# Altium footprint library Wireless.PcbLib: 5 footprints
Each footprint in its own frame and in the unit in brackets; x right, y up, seen from the top. Pads: shape width x height; smd on the part's side, far side on the other; paste and mask are expansions set on the pad; w line width, h text height; cw(c..) or ccw(c..) is an arc to the next point about the centre after c.
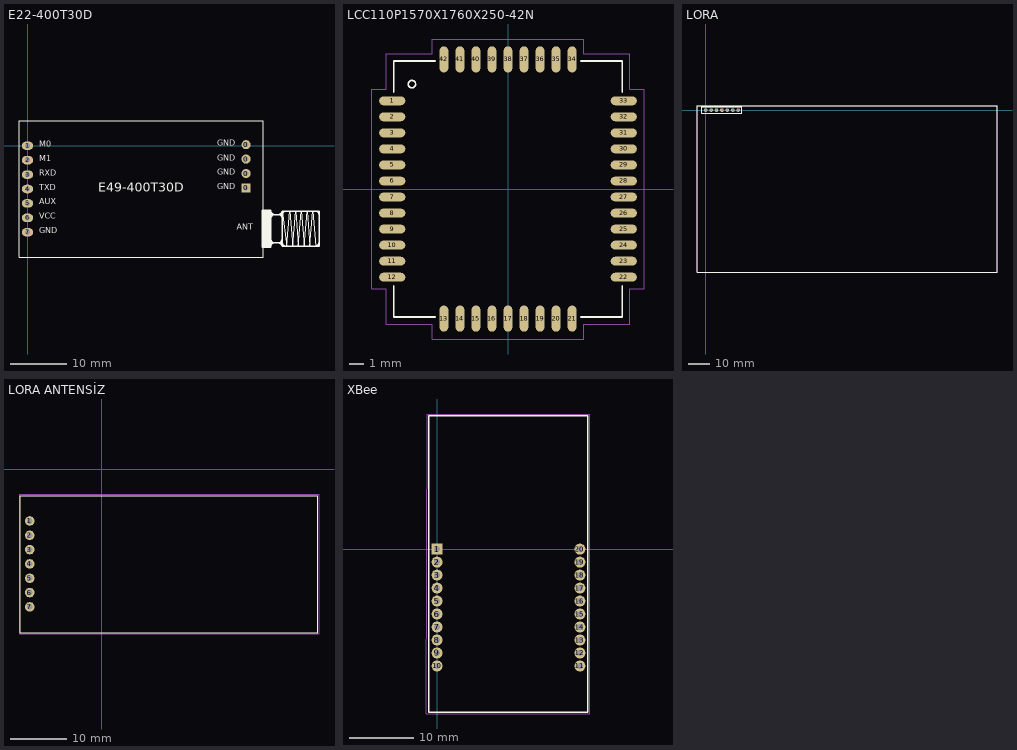
[diagram p0: the footprints below, top view; thin cyan lines are the x and y axes]

## E22-400T30D [mm]
pads (11):
  rect 1.6x1.6 hole 0.9: 0(38.5,-7.43)
  round 1.6 hole 0.9: 0(38.5,-4.89) 0(38.5,-2.35) 0(38.5,0.19)
  oval 2x1.5 hole 0.9: 1(0,0) 2(0,-2.54) 3(0,-5.08) 4(0,-7.62) 5(0,-10.16) 6(0,-12.7) 7(0,-15.24)
Top Overlay:
  rectangle: 41.35,-17.865 42.85,-11.365
  rectangle: 41.35,-17.87 42.85,-11.37
  lines w0.1: 45.7,-17.72 44.85,-11.52 45.7,-17.72 ; 45.7,-17.72 46.22,-11.52 ; 45.7,-17.72 46.22,-11.52 ; 46.22,-11.52 46.73,-17.72 ; 46.22,-11.52 46.73,-17.72 ; 46.73,-17.72 47.24,-11.52 ; 46.73,-17.72 47.24,-11.52 ; 47.24,-11.52 47.72,-17.72 ; 47.24,-11.52 47.72,-17.72 ; 47.72,-17.72 48.24,-11.52 ; 47.72,-17.72 48.24,-11.52 ; 48.24,-11.52 48.75,-17.72 ; 48.24,-11.52 48.75,-17.72 ; 48.75,-17.72 49.24,-11.52 ; 48.75,-17.72 49.24,-11.52 ; 49.24,-11.52 49.76,-17.72 ; 49.24,-11.52 49.76,-17.72 ; 49.76,-17.72 50.28,-11.52 ; 49.76,-17.72 50.28,-11.52 ; 50.28,-11.52 50.79,-17.72 50.28,-11.52 ; -1.5,-19.62 -1.5,4.38 41.5,4.38 41.5,-19.62 -1.5,-19.62
  lines w0.254: 41.35,-17.87 41.35,-11.37 ; 41.35,-17.87 42.85,-17.87 ; 41.35,-17.87 41.35,-11.37 ; 41.35,-17.87 42.85,-17.87 ; 41.35,-11.37 42.85,-11.37 ; 41.35,-11.37 42.85,-11.37 ; 42.85,-17.87 42.85,-11.37 ; 42.85,-17.87 42.85,-11.37 ; 42.85,-16.47 ccw(c43.5,-16.47) 43.5,-17.12 ; 42.85,-16.47 ccw(c43.5,-16.47) 43.5,-17.12 ; 42.85,-16.47 42.85,-16.1 42.85,-16.47 ; 42.85,-12.82 cw(c43.55,-12.82) 43.55,-12.12 ; 42.85,-12.82 cw(c43.55,-12.82) 43.55,-12.12 ; 42.85,-12.82 42.85,-13.74 42.85,-12.82 ; 42.85,-11.49 ccw(c43.48,-11.49) 43.48,-12.12 ; 42.85,-11.49 ccw(c43.48,-11.49) 43.48,-12.12 ; 42.85,-11.49 42.85,-11.37 ; 42.85,-11.49 42.85,-11.37 ; 43.4,-17.12 ccw(c43.4,-17.67) 42.85,-17.67 cw(c43.4,-17.67) 43.4,-17.12 ; 43.4,-17.12 44.25,-17.12 ; 43.4,-17.12 44.25,-17.12 ; 43.48,-12.12 44.25,-12.12 ; 43.48,-12.12 44.25,-12.12 ; 43.5,-17.12 44.22,-17.12 ; 43.5,-17.12 44.22,-17.12 ; 43.55,-12.12 44.25,-12.12 ; 43.55,-12.12 44.25,-12.12 ; 44.22,-17.12 ccw(c44.22,-16.49) 44.85,-16.49 cw(c44.22,-16.49) 44.22,-17.12 ; 44.25,-17.12 cw(c44.25,-17.72) 44.85,-17.72 ; 44.25,-17.12 cw(c44.25,-17.72) 44.85,-17.72 ; 44.25,-12.12 ccw(c44.25,-11.52) 44.85,-11.52 ; 44.25,-12.12 cw(c44.25,-12.72) 44.85,-12.72 ccw(c44.25,-12.72) 44.25,-12.12 ; 44.25,-12.12 ccw(c44.25,-11.52) 44.85,-11.52 ; 44.85,-17.72 51.35,-17.72 ; 44.85,-17.72 44.85,-11.52 ; 44.85,-17.72 51.35,-17.72 ; 44.85,-17.72 44.85,-11.52 ; 44.85,-11.52 51.35,-11.52 ; 44.85,-11.52 51.35,-11.52 ; 45.53,-17.72 cw(c45.53,-17.04) 44.85,-17.04 ccw(c45.53,-17.04) 45.53,-17.72 ; 45.53,-17.72 45.68,-17.72 45.53,-17.72 ; 50.73,-17.72 ccw(c50.73,-17.1) 51.35,-17.1 cw(c50.73,-17.1) 50.73,-17.72 ; 50.73,-17.72 50.5,-17.72 50.73,-17.72 ; 50.81,-11.52 cw(c50.81,-12.06) 51.35,-12.06 ccw(c50.81,-12.06) 50.81,-11.52 ; 50.81,-11.52 50.41,-11.52 50.81,-11.52 ; 51.35,-17.72 51.35,-11.52 ; 51.35,-17.72 51.35,-11.52 ; 42.68,-17.12 44.85,-17.12 42.68,-17.12 ; 42.85,-12.12 44.85,-12.12 42.85,-12.12 ; 44.85,-12.13 cw(c45.46,-12.13) 45.46,-11.52 ccw(c45.46,-12.13) 44.85,-12.13
  text "GND" at 33.457,-8.001 h1.8
  text "GND" at 33.457,-0.381 h1.8
  text "GND" at 33.426,-3.016 h1.8
  text "GND" at 33.426,-5.429 h1.8
  text "GND" at 2.063,-15.78 h1.8
  text "VCC" at 2.063,-13.24 h1.8
  text "AUX" at 2.063,-10.7 h1.8
  text "TXD" at 2.063,-8.16 h1.8
  text "RXD" at 2.063,-5.62 h1.8
  text "M1" at 2.063,-3.08 h1.8
  text "M0" at 2.063,-0.54 h1.8
  text "ANT" at 36.83,-15.19 h1.8
  text "E49-400T30D" at 12.446,-8.763 h2.8
3D body "E32-TTL.STEP": height 8, standoff -5.51, extent -1.473,-19.62 51.027,4.38

## LCC110P1570X1760X250-42N [mm]
pads (42):
  oval 1.8x0.6 smd: 1(-7.95,6.05) 2(-7.95,4.95) 3(-7.95,3.85) 4(-7.95,2.75) 5(-7.95,1.65) 6(-7.95,0.55) 7(-7.95,-0.55) 8(-7.95,-1.65) 9(-7.95,-2.75) 10(-7.95,-3.85) 11(-7.95,-4.95) 12(-7.95,-6.05) 22(7.95,-6.05) 23(7.95,-4.95) 24(7.95,-3.85) 25(7.95,-2.75) 26(7.95,-1.65) 27(7.95,-0.55) 28(7.95,0.55) 29(7.95,1.65) 30(7.95,2.75) 31(7.95,3.85) 32(7.95,4.95) 33(7.95,6.05)
  oval 0.6x1.8 smd: 13(-4.4,-8.9) 14(-3.3,-8.9) 15(-2.2,-8.9) 16(-1.1,-8.9) 17(0,-8.9) 18(1.1,-8.9) 19(2.2,-8.9) 20(3.3,-8.9) 21(4.4,-8.9) 34(4.4,8.9) 35(3.3,8.9) 36(2.2,8.9) 37(1.1,8.9) 38(0,8.9) 39(-1.1,8.9) 40(-2.2,8.9) 41(-3.3,8.9) 42(-4.4,8.9)
Top Overlay:
  circle w0.1: c-6.6,7.2 r0.254
  lines w0.127: -7.85,-6.65 -7.85,-8.8 -5,-8.8 ; -7.85,6.65 -7.85,8.8 -5,8.8 ; 5,-8.8 7.85,-8.8 7.85,-6.65 ; 5,8.8 7.85,8.8 7.85,6.65
Mechanical 15:
  lines w0.05: -9.35,-6.85 -8.35,-6.85 -8.35,-9.3 -5.2,-9.3 -5.2,-10.3 5.2,-10.3 5.2,-9.3 8.35,-9.3 8.35,-6.85 9.35,-6.85 9.35,6.85 8.35,6.85 8.35,9.3 5.2,9.3 5.2,10.3 -5.2,10.3 -5.2,9.3 -8.35,9.3 -8.35,6.85 -9.35,6.85 -9.35,-6.85
3D body "SIM800C.STEP": height 2.38, standoff 0, extent -7.8,-8.8 7.9,8.8

## LORA [mm]
pads (7):
  round 1.7 hole 1 mask+0.102: 1(15.24,0) 2(12.7,0) 3(10.16,0) 4(7.62,0) 5(5.08,0) 6(2.54,0) 7(0,0)
Top Overlay:
  lines w0.254: -4.075,-76.025 136.6,-76.025 136.6,2 -4.075,2 -4.075,-76.025 ; -1.75,-1.425 16.95,-1.425 16.95,1.45 -1.75,1.45 -1.75,-1.425
Mechanical 3:
  lines w0.254: -1.75,1.45 -1.75,-1.425 16.95,-1.425 16.95,1.45 -1.725,1.45 ; -4.075,-76.025 136.6,-76.025 136.6,2 -4.075,2 -4.075,-76.025
3D body "E32-TTL-100 module.STEP": height 68.75, standoff -5.53, extent -3.79,-75.748 136.166,1.274

## LORA ANTENSİZ [mm]
pads (7):
  round 1.7 hole 1 mask+0.102: 1(-12.802,-9.195) 2(-12.802,-11.735) 3(-12.802,-14.275) 4(-12.802,-16.815) 5(-12.802,-19.355) 6(-12.802,-21.895) 7(-12.802,-24.435)
Top Overlay:
  lines w0.2: -14.503,-29.007 38.278,-29.007 38.278,-4.699 -14.503,-4.699 -14.503,-29.007
Mechanical 3:
  lines w0.1: -14.707,-29.21 38.506,-29.21 38.506,-4.445 -14.707,-4.445 -14.707,-29.21
3D body "E32-TTL.STEP": height 8, standoff -5.51, extent -14.351,-28.835 38.148,-4.835

## XBee [mm]
pads (20):
  rect 1.7x1.7 hole 0.9: 1(0,0)
  round 1.7 hole 0.9: 2(0,-2) 3(0,-4) 4(0,-6) 5(0,-8) 6(0,-10) 7(0,-12) 8(0,-14) 9(0,-16) 10(0,-18) 11(22,-18) 12(22,-16) 13(22,-14) 14(22,-12) 15(22,-10) 16(22,-8) 17(22,-6) 18(22,-4) 19(22,-2) 20(22,0)
Top Overlay:
  lines w0.2: -1.27,-25.146 -1.27,20.574 23.241,20.574 23.241,-25.146 -1.27,-25.146
Mechanical 15:
  lines w0.1: -1.651,-25.4 -1.524,20.828 23.495,20.828 23.495,-25.4 -1.651,-25.4
3D body "User Library-XbeePro-SMA.STEP": height 8.25, standoff -3.13, extent -1.21,-25.146 23.174,20.498